# Altium footprint library BC Family.PcbLib: 3 footprints
Each footprint in its own frame and in the unit in brackets; x right, y up, seen from the top. Pads: shape width x height; smd on the part's side, far side on the other; paste and mask are expansions set on the pad; w line width, h text height; cw(c..) or ccw(c..) is an arc to the next point about the centre after c.
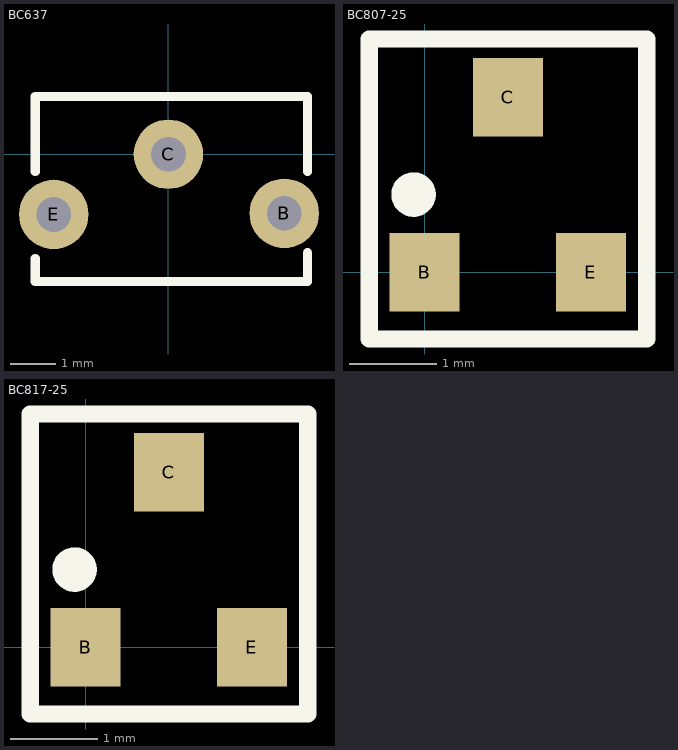
[diagram p0: the footprints below, top view; thin cyan lines are the x and y axes]

## BC637 [mil] "Bipolar (BJT) Transistor NPN 60V 1A 100MHz 1W Through Hole TO-92-3"
pads (3):
  round 60 hole 30: B(100,-51) C(0,0) E(-99,-52)
Top Overlay:
  lines w7.87: -115,-90 -115,-110 120,-110 120,-85 ; -115,-15 -115,50 120,50 120,-15
3D body "ALSRobot-TO-92B.step": height 288.98, standoff -27.56, extent -110.8,-106.11 112.82,43.5

## BC807-25 [mm] "Bipolar (BJT) Transistor PNP 45V 500mA 100MHz 300mW Surface Mount SOT-23-3 (TO-236)"
pads (3):
  rect 0.8x0.9 smd: B(0,0) C(0.95,2) E(1.9,0)
Top Overlay:
  circle w0.254: c-0.127,0.889 r0.127
  lines w0.2: -0.635,-0.762 -0.635,2.667 2.54,2.667 2.54,-0.762 -0.635,-0.762
3D body "SOT23-3.step": height 1.3, standoff 0, extent -0.485,-0.409 2.415,2.391

## BC817-25 [mm] "Bipolar (BJT) Transistor NPN 45V 500mA 100MHz 300mW Surface Mount SOT-23-3 (TO-236)"
pads (3):
  rect 0.8x0.9 smd: B(0,0) C(0.95,2) E(1.9,0)
Top Overlay:
  circle w0.254: c-0.127,0.889 r0.127
  lines w0.2: -0.635,-0.762 -0.635,2.667 2.54,2.667 2.54,-0.762 -0.635,-0.762
3D body "SOT23-3.step": height 1.3, standoff 0, extent -0.485,-0.409 2.415,2.391